# Altium schematic symbol library ic-package.SCHLIB: 42 symbols
Pins are listed as number, name and electrical type; pins without a type are passive.

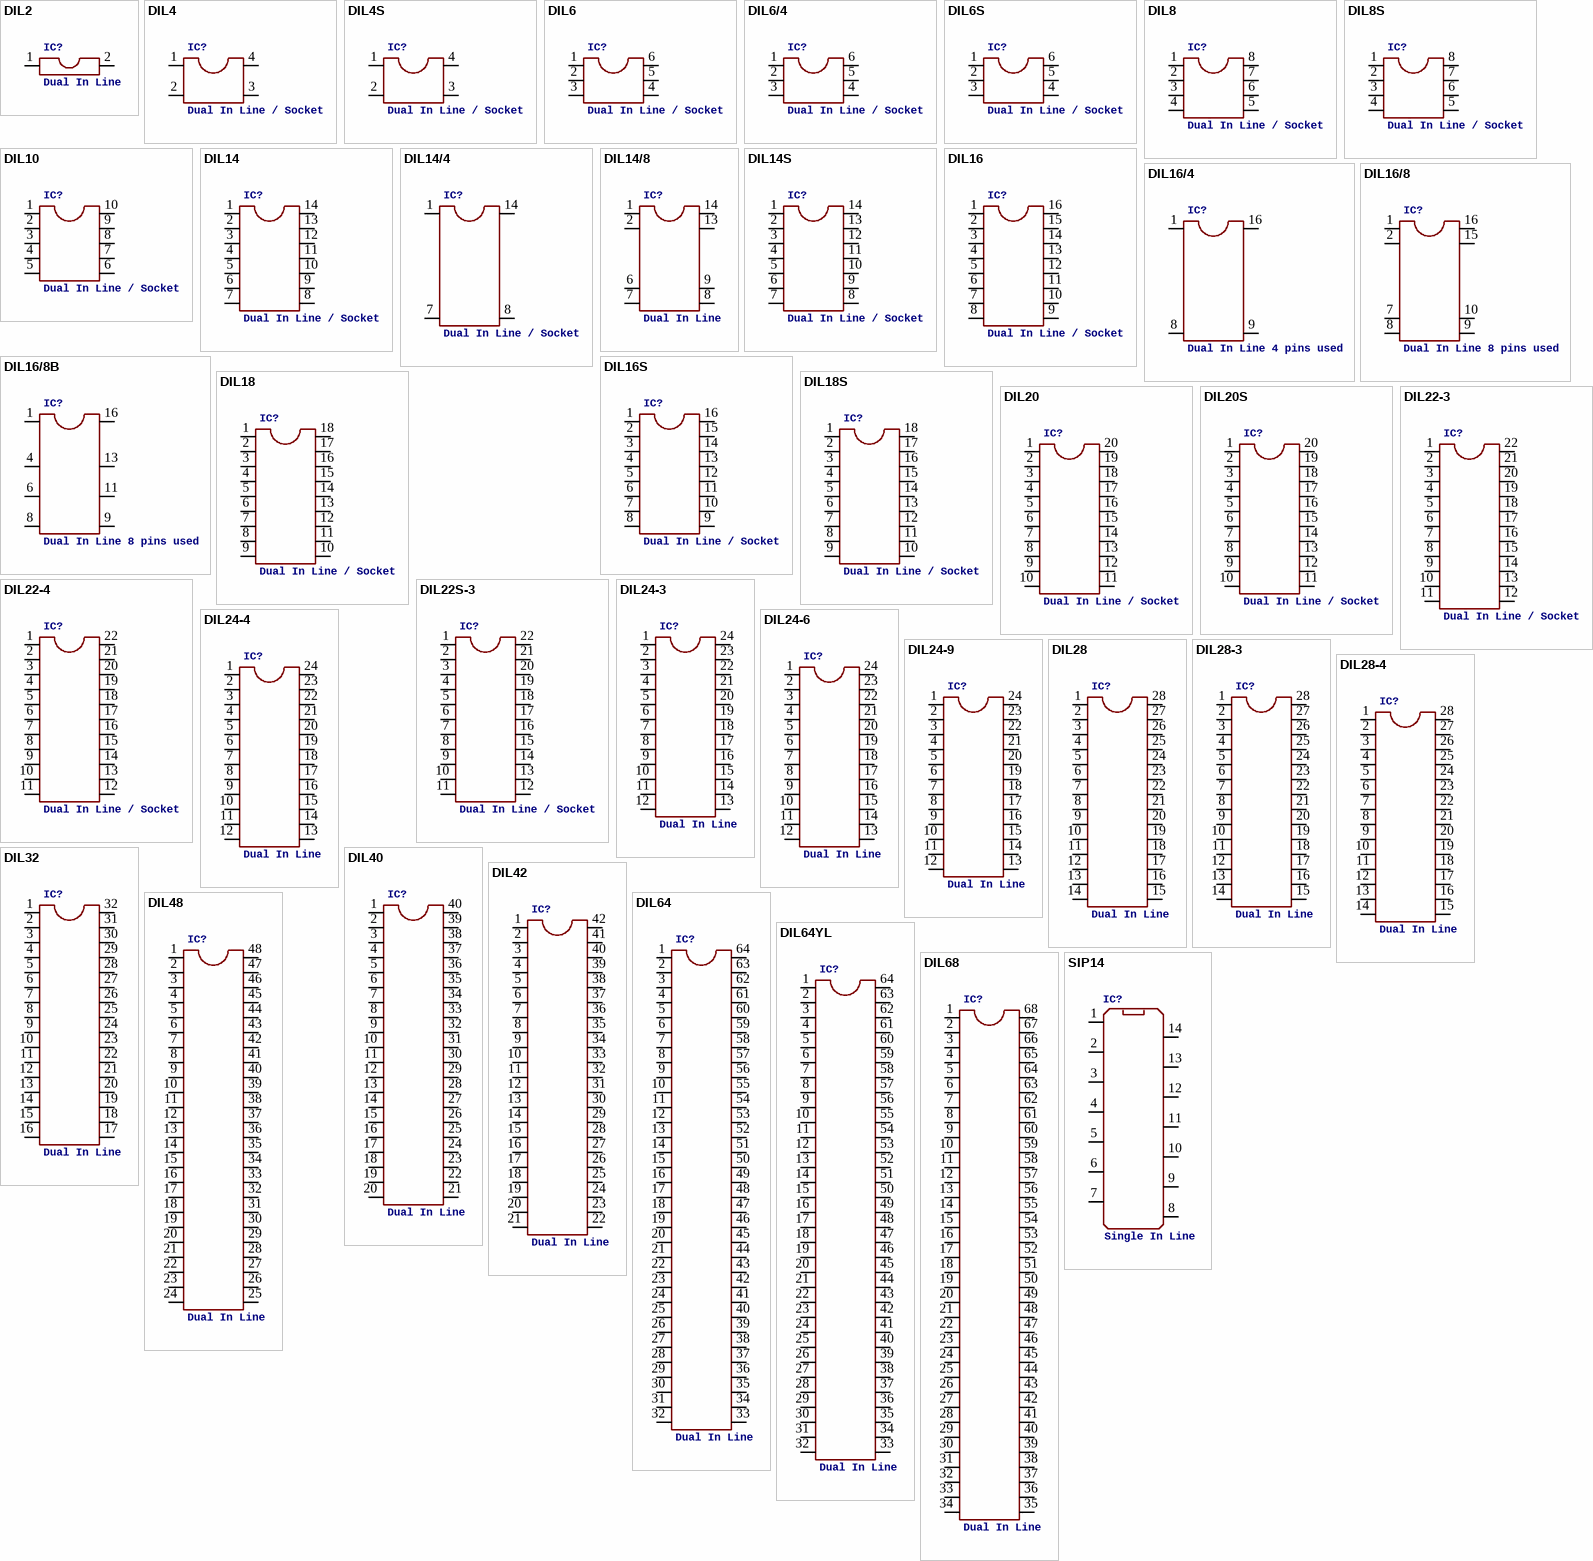
[diagram p0: symbols DIL2 to SIP14]

## DIL2
designator IC?, comment Dual In Line
footprint DIL02
pins: 1, 2

## DIL4
designator IC?, comment Dual In Line / Socket
footprint DIL04
pins: 1, 2, 3, 4

## DIL4S
designator IC?, comment Dual In Line / Socket
footprint SOCKET-04
pins: 1, 2, 3, 4

## DIL6
designator IC?, comment Dual In Line / Socket
footprint DIL06
pins: 1, 2, 3, 4, 5, 6

## DIL6/4
designator IC?, comment Dual In Line / Socket
footprint DIL06-4
pins: 1, 2, 3, 4, 5, 6

## DIL6S
designator IC?, comment Dual In Line / Socket
footprint SOCKET-06
pins: 1, 2, 3, 4, 5, 6

## DIL8
designator IC?, comment Dual In Line / Socket
footprint DIL08
pins: 1, 2, 3, 4, 5, 6, 7, 8

## DIL8S
designator IC?, comment Dual In Line / Socket
footprint SOCKET-08
pins: 1, 2, 3, 4, 5, 6, 7, 8

## DIL10
designator IC?, comment Dual In Line / Socket
footprint DIL10
pins: 1, 2, 3, 4, 5, 6, 7, 8, 9, 10

## DIL14
designator IC?, comment Dual In Line / Socket
footprint DIL14
pins: 1, 2, 3, 4, 5, 6, 7, 8, 9, 10, 11, 12, 13, 14

## DIL14/4
designator IC?, comment Dual In Line / Socket
footprint DIL14/4
pins: 1, 7 8, 8 9, 14 16

## DIL14/8
designator IC?, comment Dual In Line
footprint DIL14/8
pins: 1, 2, 6, 7, 8, 9, 13, 14

## DIL14S
designator IC?, comment Dual In Line / Socket
footprint SOCKET-14
pins: 1, 2, 3, 4, 5, 6, 7, 8, 9, 10, 11, 12, 13, 14

## DIL16
designator IC?, comment Dual In Line / Socket
footprint DIL16
pins: 1, 2, 3, 4, 5, 6, 7, 8, 9, 10, 11, 12, 13, 14, 15, 16

## DIL16/4
designator IC?, comment Dual In Line 4 pins used
footprint DIL16/4
pins: 1, 8, 9, 16

## DIL16/8
designator IC?, comment Dual In Line 8 pins used
footprint DIL16/8
pins: 1, 2, 7, 8, 9, 10, 15, 16

## DIL16/8B
designator IC?, comment Dual In Line 8 pins used
footprint DIL16/8B
pins: 1, 4, 6, 8, 9, 11, 13, 16

## DIL16S
designator IC?, comment Dual In Line / Socket
footprint SOCKET-16
pins: 1, 2, 3, 4, 5, 6, 7, 8, 9, 10, 11, 12, 13, 14, 15, 16

## DIL18
designator IC?, comment Dual In Line / Socket
footprint DIL18
pins: 1, 2, 3, 4, 5, 6, 7, 8, 9, 10, 11, 12, 13, 14, 15, 16, 17, 18

## DIL18S
designator IC?, comment Dual In Line / Socket
footprint SOCKET-18
pins: 1, 2, 3, 4, 5, 6, 7, 8, 9, 10, 11, 12, 13, 14, 15, 16, 17, 18

## DIL20
designator IC?, comment Dual In Line / Socket
footprint DIL20
pins: 1, 2, 3, 4, 5, 6, 7, 8, 9, 10, 11, 12, 13, 14, 15, 16, 17, 18, 19, 20

## DIL20S
designator IC?, comment Dual In Line / Socket
footprint SOCKET-20
pins: 1, 2, 3, 4, 5, 6, 7, 8, 9, 10, 11, 12, 13, 14, 15, 16, 17, 18, 19, 20

## DIL22-3
designator IC?, comment Dual In Line / Socket
footprint DIL22-3
pins: 1, 2, 3, 4, 5, 6, 7, 8, 9, 10, 11, 12, 13, 14, 15, 16, 17, 18, 19, 20, 21, 22

## DIL22-4
designator IC?, comment Dual In Line / Socket
footprint DIL22-4
pins: 1, 2, 3, 4, 5, 6, 7, 8, 9, 10, 11, 12, 13, 14, 15, 16, 17, 18, 19, 20, 21, 22

## DIL22S-3
designator IC?, comment Dual In Line / Socket
footprint SOCKET-22S
pins: 1, 2, 3, 4, 5, 6, 7, 8, 9, 10, 11, 12, 13, 14, 15, 16, 17, 18, 19, 20, 21, 22

## DIL24-3
designator IC?, comment Dual In Line
footprint DIL24-3
pins: 1, 2, 3, 4, 5, 6, 7, 8, 9, 10, 11, 12, 13, 14, 15, 16, 17, 18, 19, 20, 21, 22, 23, 24

## DIL24-4
designator IC?, comment Dual In Line
footprint DIL24-4
pins: 1, 2, 3, 4, 5, 6, 7, 8, 9, 10, 11, 12, 13, 14, 15, 16, 17, 18, 19, 20, 21, 22, 23, 24

## DIL24-6
designator IC?, comment Dual In Line
footprint DIL24-6
pins: 1, 2, 3, 4, 5, 6, 7, 8, 9, 10, 11, 12, 13, 14, 15, 16, 17, 18, 19, 20, 21, 22, 23, 24

## DIL24-9
designator IC?, comment Dual In Line
footprint DIL24-9
pins: 1, 2, 3, 4, 5, 6, 7, 8, 9, 10, 11, 12, 13, 14, 15, 16, 17, 18, 19, 20, 21, 22, 23, 24

## DIL28
designator IC?, comment Dual In Line
footprint DIL28-6
pins: 1, 2, 3, 4, 5, 6, 7, 8, 9, 10, 11, 12, 13, 14, 15, 16, 17, 18, 19, 20, 21, 22, 23, 24, 25, 26, 27, 28

## DIL28-3
designator IC?, comment Dual In Line
footprint DIL28-3
pins: 1, 2, 3, 4, 5, 6, 7, 8, 9, 10, 11, 12, 13, 14, 15, 16, 17, 18, 19, 20, 21, 22, 23, 24, 25, 26, 27, 28

## DIL28-4
designator IC?, comment Dual In Line
footprint DIL28-4
pins: 1, 2, 3, 4, 5, 6, 7, 8, 9, 10, 11, 12, 13, 14, 15, 16, 17, 18, 19, 20, 21, 22, 23, 24, 25, 26, 27, 28

## DIL32
designator IC?, comment Dual In Line
footprint DIL32
pins: 1, 2, 3, 4, 5, 6, 7, 8, 9, 10, 11, 12, 13, 14, 15, 16, 17, 18, 19, 20, 21, 22, 23, 24, 25, 26, 27, 28, 29, 30, 31, 32

## DIL40
designator IC?, comment Dual In Line
footprint DIL40
pins: 1, 2, 3, 4, 5, 6, 7, 8, 9, 10, 11, 12, 13, 14, 15, 16, 17, 18, 19, 20, 21, 22, 23, 24, 25, 26, 27, 28, 29, 30, 31, 32, 33, 34, 35, 36, 37, 38, 39, 40

## DIL42
designator IC?, comment Dual In Line
footprint DIL42
pins: 1, 2, 3, 4, 5, 6, 7, 8, 9, 10, 11, 12, 13, 14, 15, 16, 17, 18, 19, 20, 21, 22, 23, 24, 25, 26, 27, 28, 29, 30, 31, 32, 33, 34, 35, 36, 37, 38, 39, 40, 41, 42

## DIL48
designator IC?, comment Dual In Line
footprint DIL48
pins: 1, 2, 3, 4, 5, 6, 7, 8, 9, 10, 11, 12, 13, 14, 15, 16, 17, 18, 19, 20, 21, 22, 23, 24, 25, 26, 27, 28, 29, 30, 31, 32, 33, 34, 35, 36, 37, 38, 39, 40, 41, 42, 43, 44, 45, 46, 47, 48

## DIL64
designator IC?, comment Dual In Line
footprint DIL64
pins: 1, 2, 3, 4, 5, 6, 7, 8, 9, 10, 11, 12, 13, 14, 15, 16, 17, 18, 19, 20, 21, 22, 23, 24, 25, 26, 27, 28, 29, 30, 31, 32, 33, 34, 35, 36, 37, 38, 39, 40, 41, 42, 43, 44, 45, 46, 47, 48, 49, 50, 51, 52, 53, 54, 55, 56, 57, 58, 59, 60, 61, 62, 63, 64

## DIL64YL
designator IC?, comment Dual In Line
footprint DIL64Y
pins: 1, 2, 3, 4, 5, 6, 7, 8, 9, 10, 11, 12, 13, 14, 15, 16, 17, 18, 19, 20, 21, 22, 23, 24, 25, 26, 27, 28, 29, 30, 31, 32, 33, 34, 35, 36, 37, 38, 39, 40, 41, 42, 43, 44, 45, 46, 47, 48, 49, 50, 51, 52, 53, 54, 55, 56, 57, 58, 59, 60, 61, 62, 63, 64

## DIL68
designator IC?, comment Dual In Line
footprint DIL68
pins: 1, 2, 3, 4, 5, 6, 7, 8, 9, 10, 11, 12, 13, 14, 15, 16, 17, 18, 19, 20, 21, 22, 23, 24, 25, 26, 27, 28, 29, 30, 31, 32, 33, 34, 35, 36, 37, 38, 39, 40, 41, 42, 43, 44, 45, 46, 47, 48, 49, 50, 51, 52, 53, 54, 55, 56, 57, 58, 59, 60, 61, 62, 63, 64, 65, 66, 67, 68

## SIP14
designator IC?, comment Single In Line
footprint ZIP14
pins: 1, 2, 3, 4, 5, 6, 7, 8, 9, 10, 11, 12, 13, 14

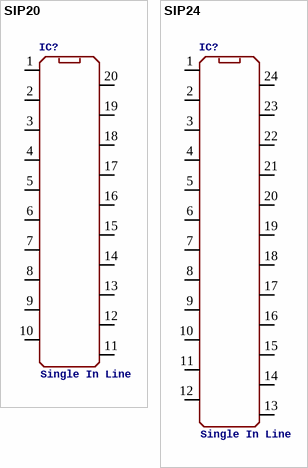
[diagram p1: symbols SIP20 to SIP24]

## SIP20
designator IC?, comment Single In Line
footprint ZIP20
pins: 1, 2, 3, 4, 5, 6, 7, 8, 9, 10, 11, 12, 13, 14, 15, 16, 17, 18, 19, 20

## SIP24
designator IC?, comment Single In Line
footprint ZIP24
pins: 1, 2, 3, 4, 5, 6, 7, 8, 9, 10, 11, 12, 13, 14, 15, 16, 17, 18, 19, 20, 21, 22, 23, 24